# Altium footprint library SamacSys.PcbLib: 6 footprints
Each footprint in its own frame and in the unit in brackets; x right, y up, seen from the top. Pads: shape width x height; smd on the part's side, far side on the other; paste and mask are expansions set on the pad; w line width, h text height; cw(c..) or ccw(c..) is an arc to the next point about the centre after c.
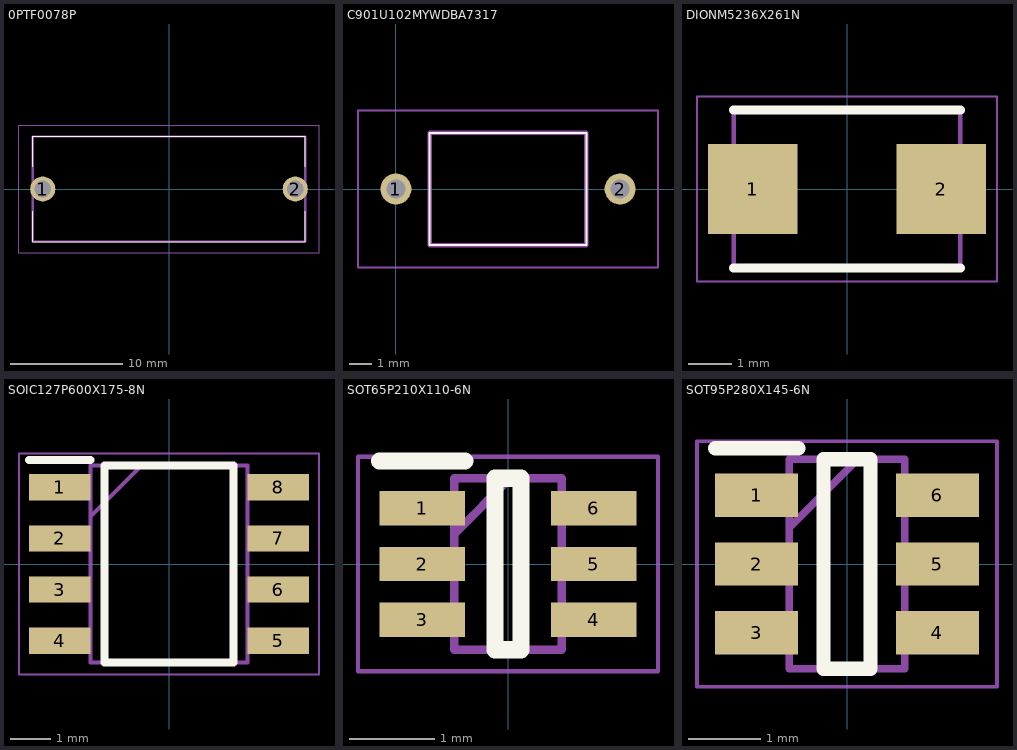
[diagram p0: the footprints below, top view; thin cyan lines are the x and y axes]

## 0PTF0078P [mm]
pads (2):
  round 2.25 hole 1.5: 1(-11.3,0) 2(11.3,0)
Top Overlay:
  lines w0.1: -12.2,-2 -12.2,-4.7 12.2,-4.7 12.2,-2 ; -12.2,2 -12.2,4.7 12.2,4.7 12.2,2
Mechanical 13:
  lines w0.2: -12.2,-4.7 -12.2,4.7 12.2,4.7 12.2,-4.7 -12.2,-4.7
Mechanical 15:
  lines w0.1: -13.425,-5.7 -13.425,5.7 13.425,5.7 13.425,-5.7 -13.425,-5.7
3D body "0PTF0078P.stp": height 11.45, standoff -3.55, extent -12.2,-4.7 12.2,4.7

## C901U102MYWDBA7317 [mm]
pads (2):
  round 1.381 hole 0.85: 1(0,0) 2(10,0)
Top Overlay:
  lines w0.1: 1.5,-2.5 1.5,2.5 8.5,2.5 8.5,-2.5 1.5,-2.5
Mechanical 13:
  lines w0.2: 1.5,-2.5 1.5,2.5 8.5,2.5 8.5,-2.5 1.5,-2.5
Mechanical 15:
  lines w0.1: -1.691,-3.5 -1.691,3.5 11.691,3.5 11.691,-3.5 -1.691,-3.5
3D body "C901U102MYWDBA7317.stp": height 6.5, standoff -24.3, extent -0.872,-2.54 10.778,2.465

## DIONM5236X261N [mm]
pads (2):
  rect 2.05x2.05 smd: 1(-2.15,0) 2(2.15,0)
Top Overlay:
  lines w0.2: -2.59,-1.802 2.59,-1.802 ; -2.59,1.802 2.59,1.802
Mechanical 13:
  lines w0.1: -2.59,-1.802 -2.59,1.802 2.59,1.802 2.59,-1.802 -2.59,-1.802
Mechanical 15:
  lines w0.05: -3.425,-2.115 -3.425,2.115 3.425,2.115 3.425,-2.115 -3.425,-2.115
3D body "SK16B_R4.stp": height 2.61, standoff 0, extent -2.59,-1.803 2.59,1.803

## SOIC127P600X175-8N [mm]
pads (8):
  rect 1.525x0.65 smd: 1(-2.712,1.905) 2(-2.712,0.635) 3(-2.712,-0.635) 4(-2.712,-1.905) 5(2.712,-1.905) 6(2.712,-0.635) 7(2.712,0.635) 8(2.712,1.905)
Top Overlay:
  lines w0.2: -3.475,2.58 -1.95,2.58 ; -1.6,-2.45 1.6,-2.45 1.6,2.45 -1.6,2.45 -1.6,-2.45
Mechanical 13:
  lines w0.1: -1.95,1.18 -0.68,2.45 ; -1.95,-2.45 1.95,-2.45 1.95,2.45 -1.95,2.45 -1.95,-2.45
Mechanical 15:
  lines w0.05: -3.725,-2.75 3.725,-2.75 3.725,2.75 -3.725,2.75 -3.725,-2.75
3D body "NE555DR.stp": height 1.75, standoff 0, extent -3,-2.45 3,2.45

## SOT65P210X110-6N [mm]
pads (6):
  rect 1x0.4 smd: 1(-1,0.65) 2(-1,0) 3(-1,-0.65) 4(1,-0.65) 5(1,0) 6(1,0.65)
Top Overlay:
  lines w0.2: -1.5,1.2 -0.5,1.2 ; -0.15,-1 -0.15,1 0.15,1 0.15,-1 -0.15,-1
Mechanical 13:
  lines w0.1: -0.625,0.35 0.025,1 ; -0.625,-1 -0.625,1 0.625,1 0.625,-1 -0.625,-1
Mechanical 15:
  lines w0.05: -1.75,-1.25 -1.75,1.25 1.75,1.25 1.75,-1.25 -1.75,-1.25
3D body "MCP4017T-503E_LT.stp": height 1.1, standoff 0, extent -1.05,-1 1.05,1

## SOT95P280X145-6N [mm]
pads (6):
  rect 1.15x0.6 smd: 1(-1.25,0.95) 2(-1.25,0) 3(-1.25,-0.95) 4(1.25,-0.95) 5(1.25,0) 6(1.25,0.95)
Top Overlay:
  lines w0.2: -1.825,1.6 -0.675,1.6 ; -0.325,-1.45 -0.325,1.45 0.325,1.45 0.325,-1.45 -0.325,-1.45
Mechanical 13:
  lines w0.1: -0.8,0.5 0.15,1.45 ; -0.8,-1.45 -0.8,1.45 0.8,1.45 0.8,-1.45 -0.8,-1.45
Mechanical 15:
  lines w0.05: -2.075,-1.7 -2.075,1.7 2.075,1.7 2.075,-1.7 -2.075,-1.7
3D body "MCP4013T-503E_CH.stp": height 1.45, standoff 0, extent -1.4,-1.45 1.4,1.45